# EAGLE library part 750310042 (library Midcom Inc - EAGLE Lib V2-0)
Package Style: EFD20 Mounting: THT Pins: 8 pins Bobbin: 070-2609 Best pinouts for production vary per application. Please contact Wurth Electronics Midcom, Inc. for assistance with your custom design. Website: Wurth Electronics Midcom <http://www.we-online.com/midcom> Contact us Wurth Electronics Midcom, Inc. 121 Airport Dr. Watertown, SD 57201 Phone: (605) 886-4385 Fax: (605) 886-4486 E-Mail: midcom@we-online.com
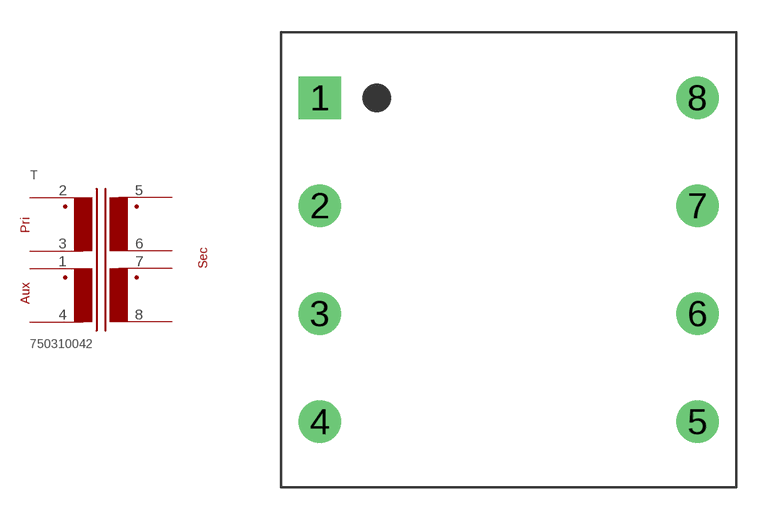
[diagram p346: symbol with the pads of EFD20_THT_H_8PIN_(2609); footprint EFD20_THT_H_8PIN_(2609)]

Designator prefix T

## 750310042  [EFD20_THT_H_8PIN_(2609)]
1  1  pas
2  2  pas
3  3  pas
4  4  pas
5  5  pas
6  6  pas
7  7  pas
8  8  pas

## Footprint EFD20_THT_H_8PIN_(2609) (pad centres in mm)
Package Style: EFD20 Mounting: THT Pins: 8 Bobbin: 070-2609
drill 1.321 square: 1 -8.75,7.506
drill 1.321: 2 -8.75,2.502; 3 -8.75,-2.502; 4 -8.75,-7.506; 5 8.75,-7.506; 6 8.75,-2.502; 7 8.75,2.502; 8 8.75,7.506